# Altium schematic symbol library benchtopschlib.SchLib: 18 symbols
Pins are listed as number, name and electrical type; pins without a type are passive.

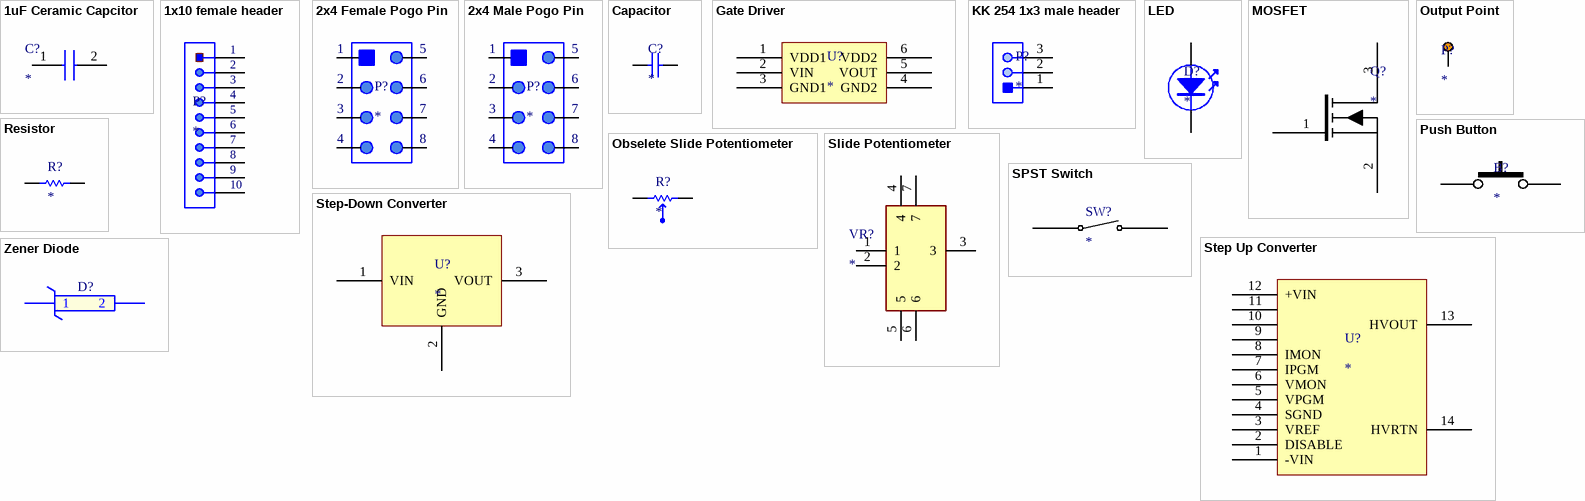
[diagram p0: symbols 1uF Ceramic Capcitor to Zener Diode]

## 1uF Ceramic Capcitor
designator C?
Capacitor; Manufacturer_Name: Samsung Electro-Mechanics; Manufacturer_Part_Number: CL10A105KA8NFNC; Datasheet Link: https://www.mouser.co.za/datasheet/2/585/MLCC-1837944.pdf; Height: 0.9mm
footprint CAPC1608X90N
pins: 1, 2

## 1x10 female header
designator P?
5-535541-8
text: 1; 2; 3; 4; 5; 6; 7; 8; 9; 10

## 2x4 Female Pogo Pin
designator P?
430-10-208-00-240000
text: 1; 5; 2; 6; 3; 7; 4; 8

## 2x4 Male Pogo Pin
designator P?
826-22-008-00-005000
text: 1; 5; 2; 6; 3; 7; 4; 8

## Capacitor
designator C?
footprint HV Capacitor (SV17_AVX)
footprint 0.1uF Cer SMD (CAPC2012X94N)
footprint 10uF Cer SMD (CAPC3216X180N)
pins: 1, 2

## Gate Driver
designator U?
ADuM4120
footprint Gate Driver
pins: 1 VDD1 (power), 2 VIN, 3 GND1 (power), 4 GND2 (power), 5 VOUT, 6 VDD2 (power)

## KK 254 1x3 male header
designator P?
22112032
pins: 1, 2, 3

## LED
designator D?
pins: 1, 2

## MOSFET
designator Q?
IXTL2N4X0
footprint MOSFET
pins: 1 G, 2 S, 3 D

## Obselete Slide Potentiometer
designator R?
(There's a better model)
pins: 1, 2

## Output Point
designator P?
Thru hole via
footprint Via
pins: 1

## Push Button
designator B?
pins: 1, 2

## Resistor
designator R?
footprint 330 Ohm (RESC1508X55N)
footprint 180 Ohm (RES_RK73H1E_KOA)
footprint HV RESISTOR
footprint 4.99 Ohm (RESC3116X65N)
footprint 10M Ohm (OH_MOX910_OHM)
pins: 1, 2

## Slide Potentiometer
designator VR?
PS45-10MA1BR500; Manufacturer_Name: BI Technologies; Datasheet Link: https://www.mouser.co.uk/datasheet/2/414/Datasheet_SlidePot_PSxx-1134242.pdf; Height: 15mm; Manufacturer_Part_Number: PS45-10MA1BR500
footprint Slide Potentiometer (PS4510MA1BR500)
pins: 1, 2, 3, 4, 5, 6, 7

## SPST Switch
designator SW?
pins: 1, 2

## Step Up Converter
designator U?
HRL30
footprint Step Up Converter (HRL30)
pins: 1 -VIN, 2 DISABLE, 3 VREF, 4 SGND, 5 VPGM, 6 VMON, 7 IPGM, 8 IMON, 9, 10, 11, 12 +VIN, 13 HVOUT, 14 HVRTN

## Step-Down Converter
designator U?
R-78E5.0-1.0
pins: 1 VIN, 2 GND, 3 VOUT

## Zener Diode
designator D?
KDZVTR16B; Vendor: ROHM Semiconductor; Built_By: EMA_Matt; SourceLibrary: Rohm_2019-09-23; Type: DEV; Manufacturer_Part_Number: KDZVTR16B; Copyright: Copyright (C) 2018 Accelerated Designs. All rights reserved; RefDes: RefDes
footprint Zener Diode (KDZVTR16B)
pins: 1, 2